# EAGLE library part MSP430G2X55 (library Oles komponentbibliotek)
MSP430G2x55 Mixed Signal Microcontroller
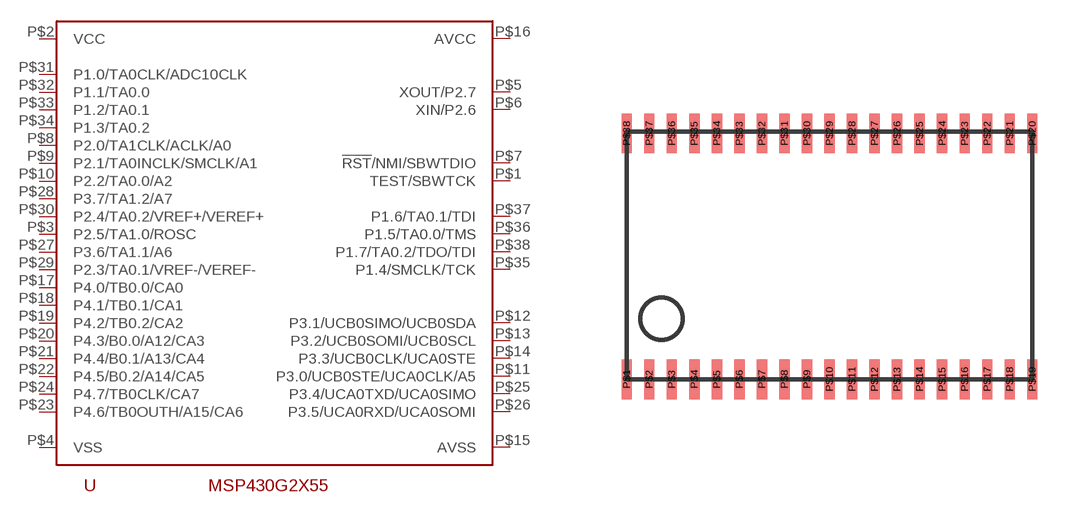
[diagram p62: symbol with the pads of TSSOP38; footprint TSSOP38]

Designator prefix U

## MSP430G2X55  [TSSOP38]
P$1  TEST/SBWTCK  in
P$2  VCC  pwr
P$3  P2.5/TA1.0/ROSC  in
P$4  VSS  pwr
P$5  XOUT/P2.7  in
P$6  XIN/P2.6  in
P$7  !RST!/NMI/SBWTDIO  in
P$8  P2.0/TA1CLK/ACLK/A0  in
P$9  P2.1/TA0INCLK/SMCLK/A1  in
P$10  P2.2/TA0.0/A2  in
P$11  P3.0/UCB0STE/UCA0CLK/A5  in
P$12  P3.1/UCB0SIMO/UCB0SDA  in
P$13  P3.2/UCB0SOMI/UCB0SCL  in
P$14  P3.3/UCB0CLK/UCA0STE  in
P$15  AVSS  pwr
P$16  AVCC  pwr
P$17  P4.0/TB0.0/CA0  in
P$18  P4.1/TB0.1/CA1  in
P$19  P4.2/TB0.2/CA2  in
P$20  P4.3/B0.0/A12/CA3  in
P$21  P4.4/B0.1/A13/CA4  in
P$22  P4.5/B0.2/A14/CA5  in
P$23  P4.6/TB0OUTH/A15/CA6  in
P$24  P4.7/TB0CLK/CA7  in
P$25  P3.4/UCA0TXD/UCA0SIMO  in
P$26  P3.5/UCA0RXD/UCA0SOMI  in
P$27  P3.6/TA1.1/A6  in
P$28  P3.7/TA1.2/A7  in
P$29  P2.3/TA0.1/VREF-/VEREF-  in
P$30  P2.4/TA0.2/VREF+/VEREF+  in
P$31  P1.0/TA0CLK/ADC10CLK  in
P$32  P1.1/TA0.0  in
P$33  P1.2/TA0.1  in
P$34  P1.3/TA0.2  in
P$35  P1.4/SMCLK/TCK  in
P$36  P1.5/TA0.0/TMS  in
P$37  P1.6/TA0.1/TDI  in
P$38  P1.7/TA0.2/TDO/TDI  in

## Footprint TSSOP38 (pad centres in mm)
smd 0.3 x 1.15: P$1 0,0; P$2 0.65,0; P$3 1.3,0; P$4 1.95,0; P$5 2.6,0; P$6 3.25,0; P$7 3.9,0; P$8 4.55,0; P$9 5.2,0; P$10 5.85,0; P$11 6.5,0; P$12 7.15,0; P$13 7.8,0; P$14 8.45,0; P$15 9.1,0; P$16 9.75,0; P$17 10.4,0; P$18 11.05,0; P$19 11.7,0; P$20 11.7,7.1; P$21 11.05,7.1; P$22 10.4,7.1; P$23 9.75,7.1; P$24 9.1,7.1; P$25 8.45,7.1; P$26 7.8,7.1; P$27 7.15,7.1; P$28 6.5,7.1; P$29 5.85,7.1; P$30 5.2,7.1; P$31 4.55,7.1; P$32 3.9,7.1; P$33 3.25,7.1; P$34 2.6,7.1; P$35 1.95,7.1; P$36 1.3,7.1; P$37 0.65,7.1; P$38 0,7.1